# Altium schematic symbol library WCAP-ATG8.SchLib: 195 symbols (part 3 of 4)
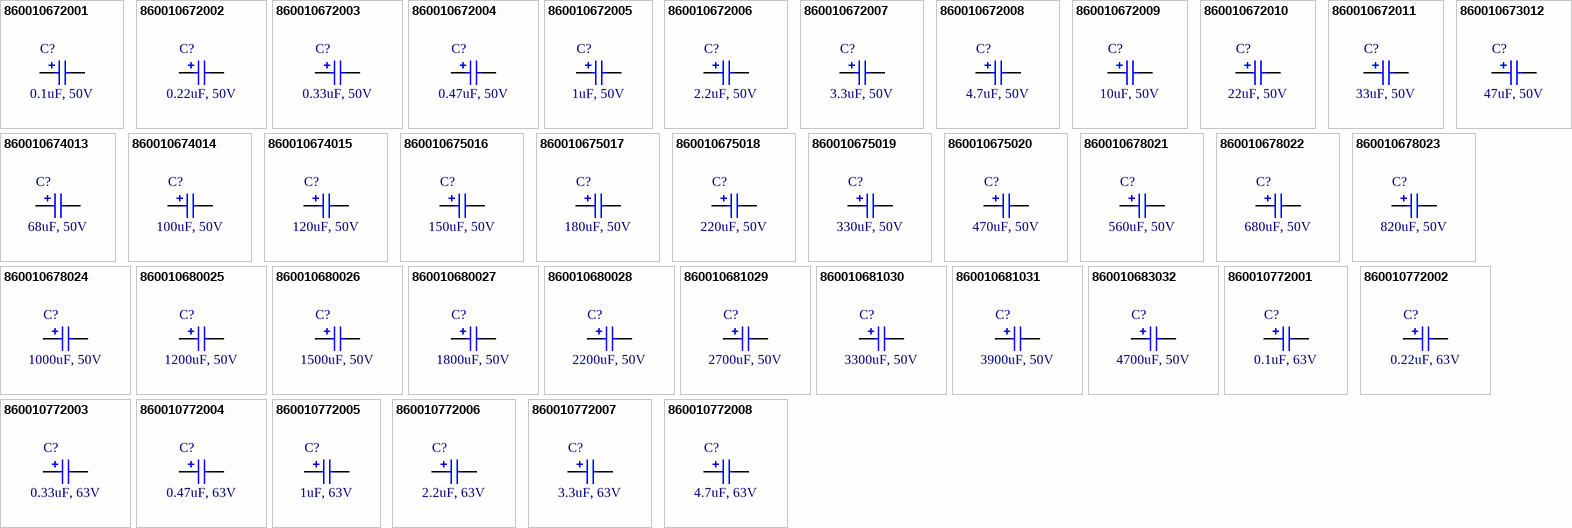
[diagram p6: symbols 860010672001 to 860010772008]

## 860010672004
designator C?, comment 0.47uF, 50V
WCAP-ATG8 Aluminum Electrolytic Capacitor, Radial, THT, D5xH11, 0.47uF, 50V; Manufacturer Part Number: 860010672004; Manufacturer: Wurth Elektronik; Ripple Current: 7.5mA; Rated Voltage: 50VDC; Technical Reference: ATBC110R47M050DSPA3B000; Leakage Current: 3uA; Endurance: 2000h; Dissipation Factor: 10%; Capacitance Tolerance: +/-20%; ComponentLink2Description: Datasheet; Published Date: October 2020; Packaging: Ammo Pack; Operating Temperature: -40 to +85degC; Mounting Technology: THT; Height: 11mm; Diameter: 5mm; ComponentLink2URL: https://www.we-online.com/catalog/datasheet/860010672004.pdf; ComponentLink1URL: http://www.we-online.de; ComponentLink1Description: Manufacturer; Capacitance: 0.47uF
footprint WCAP-ATG8_D5H11
pins: 1 P, 2 N

## 860010672005
designator C?, comment 1uF, 50V
WCAP-ATG8 Aluminum Electrolytic Capacitor, Radial, THT, D5xH11, 1uF, 50V; Manufacturer Part Number: 860010672005; Manufacturer: Wurth Elektronik; Ripple Current: 17mA; Rated Voltage: 50VDC; Technical Reference: ATBC110010M050DSPA3B000; Leakage Current: 3uA; Endurance: 2000h; Dissipation Factor: 10%; Capacitance Tolerance: +/-20%; ComponentLink2Description: Datasheet; Published Date: October 2020; Packaging: Ammo Pack; Operating Temperature: -40 to +85degC; Mounting Technology: THT; Height: 11mm; Diameter: 5mm; ComponentLink2URL: https://www.we-online.com/catalog/datasheet/860010672005.pdf; ComponentLink1URL: http://www.we-online.de; ComponentLink1Description: Manufacturer; Capacitance: 1uF
footprint WCAP-ATG8_D5H11
pins: 1 P, 2 N

## 860010672006
designator C?, comment 2.2uF, 50V
WCAP-ATG8 Aluminum Electrolytic Capacitor, Radial, THT, D5xH11, 2.2uF, 50V; Manufacturer Part Number: 860010672006; Manufacturer: Wurth Elektronik; Ripple Current: 28mA; Rated Voltage: 50VDC; Technical Reference: ATBC1102R2M050DSPA3B000; Leakage Current: 3uA; Endurance: 2000h; Dissipation Factor: 10%; Capacitance Tolerance: +/-20%; ComponentLink2Description: Datasheet; Published Date: October 2020; Packaging: Ammo Pack; Operating Temperature: -40 to +85degC; Mounting Technology: THT; Height: 11mm; Diameter: 5mm; ComponentLink2URL: https://www.we-online.com/catalog/datasheet/860010672006.pdf; ComponentLink1URL: http://www.we-online.de; ComponentLink1Description: Manufacturer; Capacitance: 2.2uF
footprint WCAP-ATG8_D5H11
pins: 1 P, 2 N

## 860010672007
designator C?, comment 3.3uF, 50V
WCAP-ATG8 Aluminum Electrolytic Capacitor, Radial, THT, D5xH11, 3.3uF, 50V; Manufacturer Part Number: 860010672007; Manufacturer: Wurth Elektronik; Ripple Current: 39mA; Rated Voltage: 50VDC; Technical Reference: ATBC1103R3M050DSPA3B000; Leakage Current: 3uA; Endurance: 2000h; Dissipation Factor: 10%; Capacitance Tolerance: +/-20%; ComponentLink2Description: Datasheet; Published Date: October 2020; Packaging: Ammo Pack; Operating Temperature: -40 to +85degC; Mounting Technology: THT; Height: 11mm; Diameter: 5mm; ComponentLink2URL: https://www.we-online.com/catalog/datasheet/860010672007.pdf; ComponentLink1URL: http://www.we-online.de; ComponentLink1Description: Manufacturer; Capacitance: 3.3uF
footprint WCAP-ATG8_D5H11
pins: 1 P, 2 N

## 860010672008
designator C?, comment 4.7uF, 50V
WCAP-ATG8 Aluminum Electrolytic Capacitor, Radial, THT, D5xH11, 4.7uF, 50V; Manufacturer Part Number: 860010672008; Manufacturer: Wurth Elektronik; Ripple Current: 46mA; Rated Voltage: 50VDC; Technical Reference: ATBC1104R7M050DSPA3B000; Leakage Current: 3uA; Endurance: 2000h; Dissipation Factor: 10%; Capacitance Tolerance: +/-20%; ComponentLink2Description: Datasheet; Published Date: October 2020; Packaging: Ammo Pack; Operating Temperature: -40 to +85degC; Mounting Technology: THT; Height: 11mm; Diameter: 5mm; ComponentLink2URL: https://www.we-online.com/catalog/datasheet/860010672008.pdf; ComponentLink1URL: http://www.we-online.de; ComponentLink1Description: Manufacturer; Capacitance: 4.7uF
footprint WCAP-ATG8_D5H11
pins: 1 P, 2 N

## 860010672009
designator C?, comment 10uF, 50V
WCAP-ATG8 Aluminum Electrolytic Capacitor, Radial, THT, D5xH11, 10uF, 50V; Manufacturer Part Number: 860010672009; Manufacturer: Wurth Elektronik; Ripple Current: 72mA; Rated Voltage: 50VDC; Technical Reference: ATBC110100M050DSPA3B000; Leakage Current: 5uA; Endurance: 2000h; Dissipation Factor: 10%; Capacitance Tolerance: +/-20%; ComponentLink2Description: Datasheet; Published Date: October 2020; Packaging: Ammo Pack; Operating Temperature: -40 to +85degC; Mounting Technology: THT; Height: 11mm; Diameter: 5mm; ComponentLink2URL: https://www.we-online.com/catalog/datasheet/860010672009.pdf; ComponentLink1URL: http://www.we-online.de; ComponentLink1Description: Manufacturer; Capacitance: 10uF
footprint WCAP-ATG8_D5H11
pins: 1 P, 2 N

## 860010672010
designator C?, comment 22uF, 50V
WCAP-ATG8 Aluminum Electrolytic Capacitor, Radial, THT, D5xH11, 22uF, 50V; Manufacturer Part Number: 860010672010; Manufacturer: Wurth Elektronik; Ripple Current: 110mA; Rated Voltage: 50VDC; Technical Reference: ATBC110220M050DSPA3B000; Leakage Current: 11uA; Endurance: 2000h; Dissipation Factor: 10%; Capacitance Tolerance: +/-20%; ComponentLink2Description: Datasheet; Published Date: October 2020; Packaging: Ammo Pack; Operating Temperature: -40 to +85degC; Mounting Technology: THT; Height: 11mm; Diameter: 5mm; ComponentLink2URL: https://www.we-online.com/catalog/datasheet/860010672010.pdf; ComponentLink1URL: http://www.we-online.de; ComponentLink1Description: Manufacturer; Capacitance: 22uF
footprint WCAP-ATG8_D5H11
pins: 1 P, 2 N

## 860010672011
designator C?, comment 33uF, 50V
WCAP-ATG8 Aluminum Electrolytic Capacitor, Radial, THT, D5xH11, 33uF, 50V; Manufacturer Part Number: 860010672011; Manufacturer: Wurth Elektronik; Ripple Current: 132mA; Rated Voltage: 50VDC; Technical Reference: ATBC110330M050DSPA3B000; Leakage Current: 16.5uA; Endurance: 2000h; Dissipation Factor: 10%; Capacitance Tolerance: +/-20%; ComponentLink2Description: Datasheet; Published Date: October 2020; Packaging: Ammo Pack; Operating Temperature: -40 to +85degC; Mounting Technology: THT; Height: 11mm; Diameter: 5mm; ComponentLink2URL: https://www.we-online.com/catalog/datasheet/860010672011.pdf; ComponentLink1URL: http://www.we-online.de; ComponentLink1Description: Manufacturer; Capacitance: 33uF
footprint WCAP-ATG8_D5H11
pins: 1 P, 2 N

## 860010673012
designator C?, comment 47uF, 50V
WCAP-ATG8 Aluminum Electrolytic Capacitor, Radial, THT, D6.3xH11, 47uF, 50V; Manufacturer Part Number: 860010673012; Manufacturer: Wurth Elektronik; Ripple Current: 165mA; Rated Voltage: 50VDC; Technical Reference: ATBD110470M050DSPA4B000; Leakage Current: 23.5uA; Endurance: 2000h; Dissipation Factor: 10%; Capacitance Tolerance: +/-20%; ComponentLink2Description: Datasheet; Published Date: October 2020; Packaging: Ammo Pack; Operating Temperature: -40 to +85degC; Mounting Technology: THT; Height: 11mm; Diameter: 6.3mm; ComponentLink2URL: https://www.we-online.com/catalog/datasheet/860010673012.pdf; ComponentLink1URL: http://www.we-online.de; ComponentLink1Description: Manufacturer; Capacitance: 47uF
footprint WCAP-ATG8_D6.3H11
pins: 1 P, 2 N

## 860010674013
designator C?, comment 68uF, 50V
WCAP-ATG8 Aluminum Electrolytic Capacitor, Radial, THT, D8xH11.5, 68uF, 50V; Manufacturer Part Number: 860010674013; Manufacturer: Wurth Elektronik; Ripple Current: 220mA; Rated Voltage: 50VDC; Technical Reference: ATBE115680M050DSPA7B000; Leakage Current: 34uA; Endurance: 2000h; Dissipation Factor: 10%; Capacitance Tolerance: +/-20%; ComponentLink2Description: Datasheet; Published Date: October 2020; Packaging: Ammo Pack; Operating Temperature: -40 to +85degC; Mounting Technology: THT; Height: 11.5mm; Diameter: 8mm; ComponentLink2URL: https://www.we-online.com/catalog/datasheet/860010674013.pdf; ComponentLink1URL: http://www.we-online.de; ComponentLink1Description: Manufacturer; Capacitance: 68uF
footprint WCAP-ATG8_D8H11.5
pins: 1 P, 2 N

## 860010674014
designator C?, comment 100uF, 50V
WCAP-ATG8 Aluminum Electrolytic Capacitor, Radial, THT, D8xH11.5, 100uF, 50V; Manufacturer Part Number: 860010674014; Manufacturer: Wurth Elektronik; Ripple Current: 286mA; Rated Voltage: 50VDC; Technical Reference: ATBE115101M050DSPA7B000; Leakage Current: 50uA; Endurance: 2000h; Dissipation Factor: 10%; Capacitance Tolerance: +/-20%; ComponentLink2Description: Datasheet; Published Date: October 2020; Packaging: Ammo Pack; Operating Temperature: -40 to +85degC; Mounting Technology: THT; Height: 11.5mm; Diameter: 8mm; ComponentLink2URL: https://www.we-online.com/catalog/datasheet/860010674014.pdf; ComponentLink1URL: http://www.we-online.de; ComponentLink1Description: Manufacturer; Capacitance: 100uF
footprint WCAP-ATG8_D8H11.5
pins: 1 P, 2 N

## 860010674015
designator C?, comment 120uF, 50V
WCAP-ATG8 Aluminum Electrolytic Capacitor, Radial, THT, D8xH11.5, 120uF, 50V; Manufacturer Part Number: 860010674015; Manufacturer: Wurth Elektronik; Ripple Current: 319mA; Rated Voltage: 50VDC; Technical Reference: ATBE115121M050DSPA7B000; Leakage Current: 60uA; Endurance: 2000h; Dissipation Factor: 10%; Capacitance Tolerance: +/-20%; ComponentLink2Description: Datasheet; Published Date: October 2020; Packaging: Ammo Pack; Operating Temperature: -40 to +85degC; Mounting Technology: THT; Height: 11.5mm; Diameter: 8mm; ComponentLink2URL: https://www.we-online.com/catalog/datasheet/860010674015.pdf; ComponentLink1URL: http://www.we-online.de; ComponentLink1Description: Manufacturer; Capacitance: 120uF
footprint WCAP-ATG8_D8H11.5
pins: 1 P, 2 N

## 860010675016
designator C?, comment 150uF, 50V
WCAP-ATG8 Aluminum Electrolytic Capacitor, Radial, THT, D10xH12.5, 150uF, 50V; Manufacturer Part Number: 860010675016; Manufacturer: Wurth Elektronik; Ripple Current: 363mA; Rated Voltage: 50VDC; Technical Reference: ATBF125151M050DSPA9B000; Leakage Current: 75uA; Endurance: 2000h; Dissipation Factor: 10%; Capacitance Tolerance: +/-20%; ComponentLink2Description: Datasheet; Published Date: October 2020; Packaging: Ammo Pack; Operating Temperature: -40 to +85degC; Mounting Technology: THT; Height: 12.5mm; Diameter: 10mm; ComponentLink2URL: https://www.we-online.com/catalog/datasheet/860010675016.pdf; ComponentLink1URL: http://www.we-online.de; ComponentLink1Description: Manufacturer; Capacitance: 150uF
footprint WCAP-ATG8_D10H12.5
pins: 1 P, 2 N

## 860010675017
designator C?, comment 180uF, 50V
WCAP-ATG8 Aluminum Electrolytic Capacitor, Radial, THT, D10xH12.5, 180uF, 50V; Manufacturer Part Number: 860010675017; Manufacturer: Wurth Elektronik; Ripple Current: 418mA; Rated Voltage: 50VDC; Technical Reference: ATBF125181M050DSPA9B000; Leakage Current: 90uA; Endurance: 2000h; Dissipation Factor: 10%; Capacitance Tolerance: +/-20%; ComponentLink2Description: Datasheet; Published Date: October 2020; Packaging: Ammo Pack; Operating Temperature: -40 to +85degC; Mounting Technology: THT; Height: 12.5mm; Diameter: 10mm; ComponentLink2URL: https://www.we-online.com/catalog/datasheet/860010675017.pdf; ComponentLink1URL: http://www.we-online.de; ComponentLink1Description: Manufacturer; Capacitance: 180uF
footprint WCAP-ATG8_D10H12.5
pins: 1 P, 2 N

## 860010675018
designator C?, comment 220uF, 50V
WCAP-ATG8 Aluminum Electrolytic Capacitor, Radial, THT, D10xH12.5, 220uF, 50V; Manufacturer Part Number: 860010675018; Manufacturer: Wurth Elektronik; Ripple Current: 468mA; Rated Voltage: 50VDC; Technical Reference: ATBF125221M050DSPA9B000; Leakage Current: 110uA; Endurance: 2000h; Dissipation Factor: 10%; Capacitance Tolerance: +/-20%; ComponentLink2Description: Datasheet; Published Date: October 2020; Packaging: Ammo Pack; Operating Temperature: -40 to +85degC; Mounting Technology: THT; Height: 12.5mm; Diameter: 10mm; ComponentLink2URL: https://www.we-online.com/catalog/datasheet/860010675018.pdf; ComponentLink1URL: http://www.we-online.de; ComponentLink1Description: Manufacturer; Capacitance: 220uF
footprint WCAP-ATG8_D10H12.5
pins: 1 P, 2 N

## 860010675019
designator C?, comment 330uF, 50V
WCAP-ATG8 Aluminum Electrolytic Capacitor, Radial, THT, D10xH16, 330uF, 50V; Manufacturer Part Number: 860010675019; Manufacturer: Wurth Elektronik; Ripple Current: 649mA; Rated Voltage: 50VDC; Technical Reference: ATBF160331M050DSPAAB000; Leakage Current: 165uA; Endurance: 2000h; Dissipation Factor: 10%; Capacitance Tolerance: +/-20%; ComponentLink2Description: Datasheet; Published Date: October 2020; Packaging: Ammo Pack; Operating Temperature: -40 to +85degC; Mounting Technology: THT; Height: 16mm; Diameter: 10mm; ComponentLink2URL: https://www.we-online.com/catalog/datasheet/860010675019.pdf; ComponentLink1URL: http://www.we-online.de; ComponentLink1Description: Manufacturer; Capacitance: 330uF
footprint WCAP-ATG8_D10H16
pins: 1 P, 2 N

## 860010675020
designator C?, comment 470uF, 50V
WCAP-ATG8 Aluminum Electrolytic Capacitor, Radial, THT, D10xH20, 470uF, 50V; Manufacturer Part Number: 860010675020; Manufacturer: Wurth Elektronik; Ripple Current: 828mA; Rated Voltage: 50VDC; Technical Reference: ATBF200471M050DSPAAB000; Leakage Current: 235uA; Endurance: 2000h; Dissipation Factor: 10%; Capacitance Tolerance: +/-20%; ComponentLink2Description: Datasheet; Published Date: October 2020; Packaging: Ammo Pack; Operating Temperature: -40 to +85degC; Mounting Technology: THT; Height: 20mm; Diameter: 10mm; ComponentLink2URL: https://www.we-online.com/catalog/datasheet/860010675020.pdf; ComponentLink1URL: http://www.we-online.de; ComponentLink1Description: Manufacturer; Capacitance: 470uF
footprint WCAP-ATG8_D10H20
pins: 1 P, 2 N

## 860010678021
designator C?, comment 560uF, 50V
WCAP-ATG8 Aluminum Electrolytic Capacitor, Radial, THT, D13xH20, 560uF, 50V; Manufacturer Part Number: 860010678021; Manufacturer: Wurth Elektronik; Ripple Current: 902mA; Rated Voltage: 50VDC; Technical Reference: ATBI200561M050DSPACB000; Leakage Current: 280uA; Endurance: 2000h; Dissipation Factor: 10%; Capacitance Tolerance: +/-20%; ComponentLink2Description: Datasheet; Published Date: October 2020; Packaging: Ammo Pack; Operating Temperature: -40 to +85degC; Mounting Technology: THT; Height: 20mm; Diameter: 13mm; ComponentLink2URL: https://www.we-online.com/catalog/datasheet/860010678021.pdf; ComponentLink1URL: http://www.we-online.de; ComponentLink1Description: Manufacturer; Capacitance: 560uF
footprint WCAP-ATG8_D13H20
pins: 1 P, 2 N

## 860010678022
designator C?, comment 680uF, 50V
WCAP-ATG8 Aluminum Electrolytic Capacitor, Radial, THT, D13xH20, 680uF, 50V; Manufacturer Part Number: 860010678022; Manufacturer: Wurth Elektronik; Ripple Current: 1056mA; Rated Voltage: 50VDC; Technical Reference: ATBI200681M050DSPACB000; Leakage Current: 340uA; Endurance: 2000h; Dissipation Factor: 10%; Capacitance Tolerance: +/-20%; ComponentLink2Description: Datasheet; Published Date: October 2020; Packaging: Ammo Pack; Operating Temperature: -40 to +85degC; Mounting Technology: THT; Height: 20mm; Diameter: 13mm; ComponentLink2URL: https://www.we-online.com/catalog/datasheet/860010678022.pdf; ComponentLink1URL: http://www.we-online.de; ComponentLink1Description: Manufacturer; Capacitance: 680uF
footprint WCAP-ATG8_D13H20
pins: 1 P, 2 N

## 860010678023
designator C?, comment 820uF, 50V
WCAP-ATG8 Aluminum Electrolytic Capacitor, Radial, THT, D13xH25, 820uF, 50V; Manufacturer Part Number: 860010678023; Manufacturer: Wurth Elektronik; Ripple Current: 1287mA; Rated Voltage: 50VDC; Technical Reference: ATBI250821M050DSPACB000; Leakage Current: 410uA; Endurance: 2000h; Dissipation Factor: 10%; Capacitance Tolerance: +/-20%; ComponentLink2Description: Datasheet; Published Date: October 2020; Packaging: Ammo Pack; Operating Temperature: -40 to +85degC; Mounting Technology: THT; Height: 25mm; Diameter: 13mm; ComponentLink2URL: https://www.we-online.com/catalog/datasheet/860010678023.pdf; ComponentLink1URL: http://www.we-online.de; ComponentLink1Description: Manufacturer; Capacitance: 820uF
footprint WCAP-ATG8_D13H25
pins: 1 P, 2 N

## 860010678024
designator C?, comment 1000uF, 50V
WCAP-ATG8 Aluminum Electrolytic Capacitor, Radial, THT, D13xH25, 1000uF, 50V; Manufacturer Part Number: 860010678024; Manufacturer: Wurth Elektronik; Ripple Current: 1485mA; Rated Voltage: 50VDC; Technical Reference: ATBI250102M050DSPACB000; Leakage Current: 500uA; Endurance: 2000h; Dissipation Factor: 10%; Capacitance Tolerance: +/-20%; ComponentLink2Description: Datasheet; Published Date: October 2020; Packaging: Ammo Pack; Operating Temperature: -40 to +85degC; Mounting Technology: THT; Height: 25mm; Diameter: 13mm; ComponentLink2URL: https://www.we-online.com/catalog/datasheet/860010678024.pdf; ComponentLink1URL: http://www.we-online.de; ComponentLink1Description: Manufacturer; Capacitance: 1000uF
footprint WCAP-ATG8_D13H25
pins: 1 P, 2 N

## 860010680025
designator C?, comment 1200uF, 50V
WCAP-ATG8 Aluminum Electrolytic Capacitor, Radial, THT, D16xH25, 1200uF, 50V; Manufacturer Part Number: 860010680025; Manufacturer: Wurth Elektronik; Ripple Current: 1617mA; Rated Voltage: 50VDC; Technical Reference: ATBK250122M050DSPAEB000; Leakage Current: 600uA; Endurance: 2000h; Dissipation Factor: 10%; Capacitance Tolerance: +/-20%; ComponentLink2Description: Datasheet; Published Date: October 2020; Packaging: Ammo Pack; Operating Temperature: -40 to +85degC; Mounting Technology: THT; Height: 25mm; Diameter: 16mm; ComponentLink2URL: https://www.we-online.com/catalog/datasheet/860010680025.pdf; ComponentLink1URL: http://www.we-online.de; ComponentLink1Description: Manufacturer; Capacitance: 1200uF
footprint WCAP-ATG8_D16H25
pins: 1 P, 2 N

## 860010680026
designator C?, comment 1500uF, 50V
WCAP-ATG8 Aluminum Electrolytic Capacitor, Radial, THT, D16xH31.5, 1500uF, 50V; Manufacturer Part Number: 860010680026; Manufacturer: Wurth Elektronik; Ripple Current: 1848mA; Rated Voltage: 50VDC; Technical Reference: ATBK315152M050DSPADB000; Leakage Current: 750uA; Endurance: 2000h; Dissipation Factor: 10%; Capacitance Tolerance: +/-20%; ComponentLink2Description: Datasheet; Published Date: October 2020; Packaging: Ammo Pack; Operating Temperature: -40 to +85degC; Mounting Technology: THT; Height: 31.5mm; Diameter: 16mm; ComponentLink2URL: https://www.we-online.com/catalog/datasheet/860010680026.pdf; ComponentLink1URL: http://www.we-online.de; ComponentLink1Description: Manufacturer; Capacitance: 1500uF
footprint WCAP-ATG8_D16H31.5
pins: 1 P, 2 N

## 860010680027
designator C?, comment 1800uF, 50V
WCAP-ATG8 Aluminum Electrolytic Capacitor, Radial, THT, D16xH31.5, 1800uF, 50V; Manufacturer Part Number: 860010680027; Manufacturer: Wurth Elektronik; Ripple Current: 2112mA; Rated Voltage: 50VDC; Technical Reference: ATBK315182M050DSPADB000; Leakage Current: 900uA; Endurance: 2000h; Dissipation Factor: 10%; Capacitance Tolerance: +/-20%; ComponentLink2Description: Datasheet; Published Date: October 2020; Packaging: Ammo Pack; Operating Temperature: -40 to +85degC; Mounting Technology: THT; Height: 31.5mm; Diameter: 16mm; ComponentLink2URL: https://www.we-online.com/catalog/datasheet/860010680027.pdf; ComponentLink1URL: http://www.we-online.de; ComponentLink1Description: Manufacturer; Capacitance: 1800uF
footprint WCAP-ATG8_D16H31.5
pins: 1 P, 2 N

## 860010680028
designator C?, comment 2200uF, 50V
WCAP-ATG8 Aluminum Electrolytic Capacitor, Radial, THT, D16xH35.5, 2200uF, 50V; Manufacturer Part Number: 860010680028; Manufacturer: Wurth Elektronik; Ripple Current: 2310mA; Rated Voltage: 50VDC; Technical Reference: ATBK355222M050DSPADB000; Leakage Current: 1100uA; Endurance: 2000h; Dissipation Factor: 10%; Capacitance Tolerance: +/-20%; ComponentLink2Description: Datasheet; Published Date: October 2020; Packaging: Ammo Pack; Operating Temperature: -40 to +85degC; Mounting Technology: THT; Height: 35.5mm; Diameter: 16mm; ComponentLink2URL: https://www.we-online.com/catalog/datasheet/860010680028.pdf; ComponentLink1URL: http://www.we-online.de; ComponentLink1Description: Manufacturer; Capacitance: 2200uF
footprint WCAP-ATG8_D16H35.5
pins: 1 P, 2 N

## 860010681029
designator C?, comment 2700uF, 50V
WCAP-ATG8 Aluminum Electrolytic Capacitor, Radial, THT, D18xH31.5, 2700uF, 50V; Manufacturer Part Number: 860010681029; Manufacturer: Wurth Elektronik; Ripple Current: 2420mA; Rated Voltage: 50VDC; Technical Reference: ATBL315272M050DSPAEB000; Leakage Current: 1350uA; Endurance: 2000h; Dissipation Factor: 10%; Capacitance Tolerance: +/-20%; ComponentLink2Description: Datasheet; Published Date: October 2020; Packaging: Ammo Pack; Operating Temperature: -40 to +85degC; Mounting Technology: THT; Height: 31.5mm; Diameter: 18mm; ComponentLink2URL: https://www.we-online.com/catalog/datasheet/860010681029.pdf; ComponentLink1URL: http://www.we-online.de; ComponentLink1Description: Manufacturer; Capacitance: 2700uF
footprint WCAP-ATG8_D18H31.5
pins: 1 P, 2 N

## 860010681030
designator C?, comment 3300uF, 50V
WCAP-ATG8 Aluminum Electrolytic Capacitor, Radial, THT, D18xH35.5, 3300uF, 50V; Manufacturer Part Number: 860010681030; Manufacturer: Wurth Elektronik; Ripple Current: 2750mA; Rated Voltage: 50VDC; Technical Reference: ATBL355332M050DSPAEB000; Leakage Current: 1650uA; Endurance: 2000h; Dissipation Factor: 10%; Capacitance Tolerance: +/-20%; ComponentLink2Description: Datasheet; Published Date: October 2020; Packaging: Ammo Pack; Operating Temperature: -40 to +85degC; Mounting Technology: THT; Height: 35.5mm; Diameter: 18mm; ComponentLink2URL: https://www.we-online.com/catalog/datasheet/860010681030.pdf; ComponentLink1URL: http://www.we-online.de; ComponentLink1Description: Manufacturer; Capacitance: 3300uF
footprint WCAP-ATG8_D18H35.5
pins: 1 P, 2 N

## 860010681031
designator C?, comment 3900uF, 50V
WCAP-ATG8 Aluminum Electrolytic Capacitor, Radial, THT, D18xH41, 3900uF, 50V; Manufacturer Part Number: 860010681031; Manufacturer: Wurth Elektronik; Ripple Current: 2871mA; Rated Voltage: 50VDC; Technical Reference: ATBL410392M050DSPS1B000; Leakage Current: 1950uA; Endurance: 2000h; Dissipation Factor: 10%; Capacitance Tolerance: +/-20%; ComponentLink2Description: Datasheet; Published Date: October 2020; Packaging: Ammo Pack; Operating Temperature: -40 to +85degC; Mounting Technology: THT; Height: 41mm; Diameter: 18mm; ComponentLink2URL: https://www.we-online.com/catalog/datasheet/860010681031.pdf; ComponentLink1URL: http://www.we-online.de; ComponentLink1Description: Manufacturer; Capacitance: 3900uF
footprint WCAP-ATG8_D18H41
pins: 1 P, 2 N

## 860010683032
designator C?, comment 4700uF, 50V
WCAP-ATG8 Aluminum Electrolytic Capacitor, Radial, THT, D22xH41, 4700uF, 50V; Manufacturer Part Number: 860010683032; Manufacturer: Wurth Elektronik; Ripple Current: 3355mA; Rated Voltage: 50VDC; Technical Reference: ATBN410472M050DSPS2B000; Leakage Current: 2350uA; Endurance: 2000h; Dissipation Factor: 10%; Capacitance Tolerance: +/-20%; ComponentLink2Description: Datasheet; Published Date: October 2020; Packaging: Ammo Pack; Operating Temperature: -40 to +85degC; Mounting Technology: THT; Height: 41mm; Diameter: 22mm; ComponentLink2URL: https://www.we-online.com/catalog/datasheet/860010683032.pdf; ComponentLink1URL: http://www.we-online.de; ComponentLink1Description: Manufacturer; Capacitance: 4700uF
footprint WCAP-ATG8_D22H41
pins: 1 P, 2 N

## 860010772001
designator C?, comment 0.1uF, 63V
WCAP-ATG8 Aluminum Electrolytic Capacitor, Radial, THT, D5xH11, 0.1uF, 63V; Manufacturer Part Number: 860010772001; Manufacturer: Wurth Elektronik; Ripple Current: 4mA; Rated Voltage: 63VDC; Technical Reference: ATBC110R10M063DSPA3B000; Leakage Current: 3uA; Endurance: 2000h; Dissipation Factor: 9%; Capacitance Tolerance: +/-20%; ComponentLink2Description: Datasheet; Published Date: October 2020; Packaging: Ammo Pack; Operating Temperature: -40 to +85degC; Mounting Technology: THT; Height: 11mm; Diameter: 5mm; ComponentLink2URL: https://www.we-online.com/catalog/datasheet/860010772001.pdf; ComponentLink1URL: http://www.we-online.de; ComponentLink1Description: Manufacturer; Capacitance: 0.1uF
footprint WCAP-ATG8_D5H11
pins: 1 P, 2 N

## 860010772002
designator C?, comment 0.22uF, 63V
WCAP-ATG8 Aluminum Electrolytic Capacitor, Radial, THT, D5xH11, 0.22uF, 63V; Manufacturer Part Number: 860010772002; Manufacturer: Wurth Elektronik; Ripple Current: 4mA; Rated Voltage: 63VDC; Technical Reference: ATBC110R22M063DSPA3B000; Leakage Current: 3uA; Endurance: 2000h; Dissipation Factor: 9%; Capacitance Tolerance: +/-20%; ComponentLink2Description: Datasheet; Published Date: October 2020; Packaging: Ammo Pack; Operating Temperature: -40 to +85degC; Mounting Technology: THT; Height: 11mm; Diameter: 5mm; ComponentLink2URL: https://www.we-online.com/catalog/datasheet/860010772002.pdf; ComponentLink1URL: http://www.we-online.de; ComponentLink1Description: Manufacturer; Capacitance: 0.22uF
footprint WCAP-ATG8_D5H11
pins: 1 P, 2 N

## 860010772003
designator C?, comment 0.33uF, 63V
WCAP-ATG8 Aluminum Electrolytic Capacitor, Radial, THT, D5xH11, 0.33uF, 63V; Manufacturer Part Number: 860010772003; Manufacturer: Wurth Elektronik; Ripple Current: 6mA; Rated Voltage: 63VDC; Technical Reference: ATBC110R33M063DSPA3B000; Leakage Current: 3uA; Endurance: 2000h; Dissipation Factor: 9%; Capacitance Tolerance: +/-20%; ComponentLink2Description: Datasheet; Published Date: October 2020; Packaging: Ammo Pack; Operating Temperature: -40 to +85degC; Mounting Technology: THT; Height: 11mm; Diameter: 5mm; ComponentLink2URL: https://www.we-online.com/catalog/datasheet/860010772003.pdf; ComponentLink1URL: http://www.we-online.de; ComponentLink1Description: Manufacturer; Capacitance: 0.33uF
footprint WCAP-ATG8_D5H11
pins: 1 P, 2 N

## 860010772004
designator C?, comment 0.47uF, 63V
WCAP-ATG8 Aluminum Electrolytic Capacitor, Radial, THT, D5xH11, 0.47uF, 63V; Manufacturer Part Number: 860010772004; Manufacturer: Wurth Elektronik; Ripple Current: 8mA; Rated Voltage: 63VDC; Technical Reference: ATBC110R47M063DSPA3B000; Leakage Current: 3uA; Endurance: 2000h; Dissipation Factor: 9%; Capacitance Tolerance: +/-20%; ComponentLink2Description: Datasheet; Published Date: October 2020; Packaging: Ammo Pack; Operating Temperature: -40 to +85degC; Mounting Technology: THT; Height: 11mm; Diameter: 5mm; ComponentLink2URL: https://www.we-online.com/catalog/datasheet/860010772004.pdf; ComponentLink1URL: http://www.we-online.de; ComponentLink1Description: Manufacturer; Capacitance: 0.47uF
footprint WCAP-ATG8_D5H11
pins: 1 P, 2 N

## 860010772005
designator C?, comment 1uF, 63V
WCAP-ATG8 Aluminum Electrolytic Capacitor, Radial, THT, D5xH11, 1uF, 63V; Manufacturer Part Number: 860010772005; Manufacturer: Wurth Elektronik; Ripple Current: 17mA; Rated Voltage: 63VDC; Technical Reference: ATBC110010M063DSPA3B000; Leakage Current: 3uA; Endurance: 2000h; Dissipation Factor: 9%; Capacitance Tolerance: +/-20%; ComponentLink2Description: Datasheet; Published Date: October 2020; Packaging: Ammo Pack; Operating Temperature: -40 to +85degC; Mounting Technology: THT; Height: 11mm; Diameter: 5mm; ComponentLink2URL: https://www.we-online.com/catalog/datasheet/860010772005.pdf; ComponentLink1URL: http://www.we-online.de; ComponentLink1Description: Manufacturer; Capacitance: 1uF
footprint WCAP-ATG8_D5H11
pins: 1 P, 2 N

## 860010772006
designator C?, comment 2.2uF, 63V
WCAP-ATG8 Aluminum Electrolytic Capacitor, Radial, THT, D5xH11, 2.2uF, 63V; Manufacturer Part Number: 860010772006; Manufacturer: Wurth Elektronik; Ripple Current: 31mA; Rated Voltage: 63VDC; Technical Reference: ATBC1102R2M063DSPA3B000; Leakage Current: 3uA; Endurance: 2000h; Dissipation Factor: 9%; Capacitance Tolerance: +/-20%; ComponentLink2Description: Datasheet; Published Date: October 2020; Packaging: Ammo Pack; Operating Temperature: -40 to +85degC; Mounting Technology: THT; Height: 11mm; Diameter: 5mm; ComponentLink2URL: https://www.we-online.com/catalog/datasheet/860010772006.pdf; ComponentLink1URL: http://www.we-online.de; ComponentLink1Description: Manufacturer; Capacitance: 2.2uF
footprint WCAP-ATG8_D5H11
pins: 1 P, 2 N

## 860010772007
designator C?, comment 3.3uF, 63V
WCAP-ATG8 Aluminum Electrolytic Capacitor, Radial, THT, D5xH11, 3.3uF, 63V; Manufacturer Part Number: 860010772007; Manufacturer: Wurth Elektronik; Ripple Current: 39mA; Rated Voltage: 63VDC; Technical Reference: ATBC1103R3M063DSPA3B000; Leakage Current: 3uA; Endurance: 2000h; Dissipation Factor: 9%; Capacitance Tolerance: +/-20%; ComponentLink2Description: Datasheet; Published Date: October 2020; Packaging: Ammo Pack; Operating Temperature: -40 to +85degC; Mounting Technology: THT; Height: 11mm; Diameter: 5mm; ComponentLink2URL: https://www.we-online.com/catalog/datasheet/860010772007.pdf; ComponentLink1URL: http://www.we-online.de; ComponentLink1Description: Manufacturer; Capacitance: 3.3uF
footprint WCAP-ATG8_D5H11
pins: 1 P, 2 N

## 860010772008
designator C?, comment 4.7uF, 63V
WCAP-ATG8 Aluminum Electrolytic Capacitor, Radial, THT, D5xH11, 4.7uF, 63V; Manufacturer Part Number: 860010772008; Manufacturer: Wurth Elektronik; Ripple Current: 50mA; Rated Voltage: 63VDC; Technical Reference: ATBC1104R7M063DSPA3B000; Leakage Current: 3uA; Endurance: 2000h; Dissipation Factor: 9%; Capacitance Tolerance: +/-20%; ComponentLink2Description: Datasheet; Published Date: October 2020; Packaging: Ammo Pack; Operating Temperature: -40 to +85degC; Mounting Technology: THT; Height: 11mm; Diameter: 5mm; ComponentLink2URL: https://www.we-online.com/catalog/datasheet/860010772008.pdf; ComponentLink1URL: http://www.we-online.de; ComponentLink1Description: Manufacturer; Capacitance: 4.7uF
footprint WCAP-ATG8_D5H11
pins: 1 P, 2 N

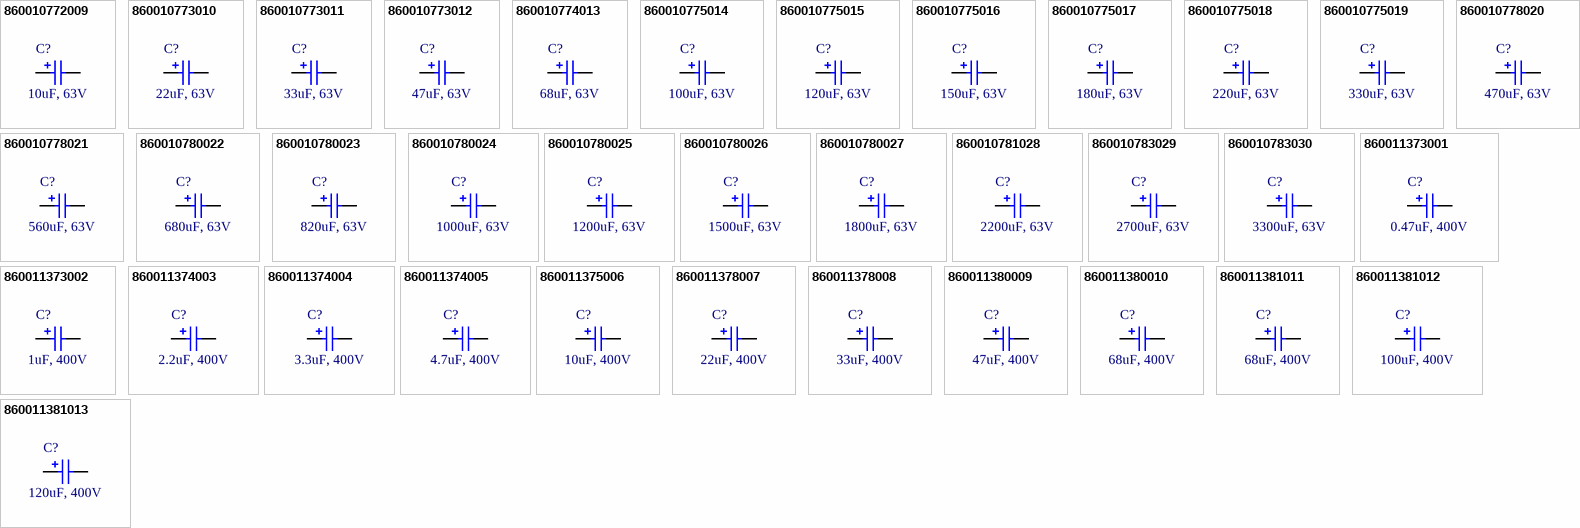
[diagram p4: symbols 860010772009 to 860011381013]

## 860010772009
designator C?, comment 10uF, 63V
WCAP-ATG8 Aluminum Electrolytic Capacitor, Radial, THT, D5xH11, 10uF, 63V; Manufacturer Part Number: 860010772009; Manufacturer: Wurth Elektronik; Ripple Current: 77mA; Rated Voltage: 63VDC; Technical Reference: ATBC110100M063DSPA3B000; Leakage Current: 6.3uA; Endurance: 2000h; Dissipation Factor: 9%; Capacitance Tolerance: +/-20%; ComponentLink2Description: Datasheet; Published Date: October 2020; Packaging: Ammo Pack; Operating Temperature: -40 to +85degC; Mounting Technology: THT; Height: 11mm; Diameter: 5mm; ComponentLink2URL: https://www.we-online.com/catalog/datasheet/860010772009.pdf; ComponentLink1URL: http://www.we-online.de; ComponentLink1Description: Manufacturer; Capacitance: 10uF
footprint WCAP-ATG8_D5H11
pins: 1 P, 2 N

## 860010773010
designator C?, comment 22uF, 63V
WCAP-ATG8 Aluminum Electrolytic Capacitor, Radial, THT, D6.3xH11, 22uF, 63V; Manufacturer Part Number: 860010773010; Manufacturer: Wurth Elektronik; Ripple Current: 127mA; Rated Voltage: 63VDC; Technical Reference: ATBD110220M063DSPA4B000; Leakage Current: 13.86uA; Endurance: 2000h; Dissipation Factor: 9%; Capacitance Tolerance: +/-20%; ComponentLink2Description: Datasheet; Published Date: October 2020; Packaging: Ammo Pack; Operating Temperature: -40 to +85degC; Mounting Technology: THT; Height: 11mm; Diameter: 6.3mm; ComponentLink2URL: https://www.we-online.com/catalog/datasheet/860010773010.pdf; ComponentLink1URL: http://www.we-online.de; ComponentLink1Description: Manufacturer; Capacitance: 22uF
footprint WCAP-ATG8_D6.3H11
pins: 1 P, 2 N

## 860010773011
designator C?, comment 33uF, 63V
WCAP-ATG8 Aluminum Electrolytic Capacitor, Radial, THT, D6.3xH11, 33uF, 63V; Manufacturer Part Number: 860010773011; Manufacturer: Wurth Elektronik; Ripple Current: 149mA; Rated Voltage: 63VDC; Technical Reference: ATBD110330M063DSPA4B000; Leakage Current: 20.79uA; Endurance: 2000h; Dissipation Factor: 9%; Capacitance Tolerance: +/-20%; ComponentLink2Description: Datasheet; Published Date: October 2020; Packaging: Ammo Pack; Operating Temperature: -40 to +85degC; Mounting Technology: THT; Height: 11mm; Diameter: 6.3mm; ComponentLink2URL: https://www.we-online.com/catalog/datasheet/860010773011.pdf; ComponentLink1URL: http://www.we-online.de; ComponentLink1Description: Manufacturer; Capacitance: 33uF
footprint WCAP-ATG8_D6.3H11
pins: 1 P, 2 N

## 860010773012
designator C?, comment 47uF, 63V
WCAP-ATG8 Aluminum Electrolytic Capacitor, Radial, THT, D6.3xH11, 47uF, 63V; Manufacturer Part Number: 860010773012; Manufacturer: Wurth Elektronik; Ripple Current: 198mA; Rated Voltage: 63VDC; Technical Reference: ATBD110470M063DSPA4B000; Leakage Current: 29.61uA; Endurance: 2000h; Dissipation Factor: 9%; Capacitance Tolerance: +/-20%; ComponentLink2Description: Datasheet; Published Date: October 2020; Packaging: Ammo Pack; Operating Temperature: -40 to +85degC; Mounting Technology: THT; Height: 11mm; Diameter: 6.3mm; ComponentLink2URL: https://www.we-online.com/catalog/datasheet/860010773012.pdf; ComponentLink1URL: http://www.we-online.de; ComponentLink1Description: Manufacturer; Capacitance: 47uF
footprint WCAP-ATG8_D6.3H11
pins: 1 P, 2 N

## 860010774013
designator C?, comment 68uF, 63V
WCAP-ATG8 Aluminum Electrolytic Capacitor, Radial, THT, D8xH11.5, 68uF, 63V; Manufacturer Part Number: 860010774013; Manufacturer: Wurth Elektronik; Ripple Current: 253mA; Rated Voltage: 63VDC; Technical Reference: ATBE115680M063DSPA7B000; Leakage Current: 42.84uA; Endurance: 2000h; Dissipation Factor: 9%; Capacitance Tolerance: +/-20%; ComponentLink2Description: Datasheet; Published Date: October 2020; Packaging: Ammo Pack; Operating Temperature: -40 to +85degC; Mounting Technology: THT; Height: 11.5mm; Diameter: 8mm; ComponentLink2URL: https://www.we-online.com/catalog/datasheet/860010774013.pdf; ComponentLink1URL: http://www.we-online.de; ComponentLink1Description: Manufacturer; Capacitance: 68uF
footprint WCAP-ATG8_D8H11.5
pins: 1 P, 2 N

## 860010775014
designator C?, comment 100uF, 63V
WCAP-ATG8 Aluminum Electrolytic Capacitor, Radial, THT, D10xH12.5, 100uF, 63V; Manufacturer Part Number: 860010775014; Manufacturer: Wurth Elektronik; Ripple Current: 330mA; Rated Voltage: 63VDC; Technical Reference: ATBF125101M063DSPA9B000; Leakage Current: 63uA; Endurance: 2000h; Dissipation Factor: 9%; Capacitance Tolerance: +/-20%; ComponentLink2Description: Datasheet; Published Date: October 2020; Packaging: Ammo Pack; Operating Temperature: -40 to +85degC; Mounting Technology: THT; Height: 12.5mm; Diameter: 10mm; ComponentLink2URL: https://www.we-online.com/catalog/datasheet/860010775014.pdf; ComponentLink1URL: http://www.we-online.de; ComponentLink1Description: Manufacturer; Capacitance: 100uF
footprint WCAP-ATG8_D10H12.5
pins: 1 P, 2 N

## 860010775015
designator C?, comment 120uF, 63V
WCAP-ATG8 Aluminum Electrolytic Capacitor, Radial, THT, D10xH16, 120uF, 63V; Manufacturer Part Number: 860010775015; Manufacturer: Wurth Elektronik; Ripple Current: 396mA; Rated Voltage: 63VDC; Technical Reference: ATBF160121M063DSPAAB000; Leakage Current: 75.6uA; Endurance: 2000h; Dissipation Factor: 9%; Capacitance Tolerance: +/-20%; ComponentLink2Description: Datasheet; Published Date: October 2020; Packaging: Ammo Pack; Operating Temperature: -40 to +85degC; Mounting Technology: THT; Height: 16mm; Diameter: 10mm; ComponentLink2URL: https://www.we-online.com/catalog/datasheet/860010775015.pdf; ComponentLink1URL: http://www.we-online.de; ComponentLink1Description: Manufacturer; Capacitance: 120uF
footprint WCAP-ATG8_D10H16
pins: 1 P, 2 N

## 860010775016
designator C?, comment 150uF, 63V
WCAP-ATG8 Aluminum Electrolytic Capacitor, Radial, THT, D10xH16, 150uF, 63V; Manufacturer Part Number: 860010775016; Manufacturer: Wurth Elektronik; Ripple Current: 462mA; Rated Voltage: 63VDC; Technical Reference: ATBF160151M063DSPAAB000; Leakage Current: 94.5uA; Endurance: 2000h; Dissipation Factor: 9%; Capacitance Tolerance: +/-20%; ComponentLink2Description: Datasheet; Published Date: October 2020; Packaging: Ammo Pack; Operating Temperature: -40 to +85degC; Mounting Technology: THT; Height: 16mm; Diameter: 10mm; ComponentLink2URL: https://www.we-online.com/catalog/datasheet/860010775016.pdf; ComponentLink1URL: http://www.we-online.de; ComponentLink1Description: Manufacturer; Capacitance: 150uF
footprint WCAP-ATG8_D10H16
pins: 1 P, 2 N

## 860010775017
designator C?, comment 180uF, 63V
WCAP-ATG8 Aluminum Electrolytic Capacitor, Radial, THT, D10xH16, 180uF, 63V; Manufacturer Part Number: 860010775017; Manufacturer: Wurth Elektronik; Ripple Current: 528mA; Rated Voltage: 63VDC; Technical Reference: ATBF160181M063DSPAAB000; Leakage Current: 113.4uA; Endurance: 2000h; Dissipation Factor: 9%; Capacitance Tolerance: +/-20%; ComponentLink2Description: Datasheet; Published Date: October 2020; Packaging: Ammo Pack; Operating Temperature: -40 to +85degC; Mounting Technology: THT; Height: 16mm; Diameter: 10mm; ComponentLink2URL: https://www.we-online.com/catalog/datasheet/860010775017.pdf; ComponentLink1URL: http://www.we-online.de; ComponentLink1Description: Manufacturer; Capacitance: 180uF
footprint WCAP-ATG8_D10H16
pins: 1 P, 2 N

## 860010775018
designator C?, comment 220uF, 63V
WCAP-ATG8 Aluminum Electrolytic Capacitor, Radial, THT, D10xH16, 220uF, 63V; Manufacturer Part Number: 860010775018; Manufacturer: Wurth Elektronik; Ripple Current: 550mA; Rated Voltage: 63VDC; Technical Reference: ATBF160221M063DSPAAB000; Leakage Current: 138.6uA; Endurance: 2000h; Dissipation Factor: 9%; Capacitance Tolerance: +/-20%; ComponentLink2Description: Datasheet; Published Date: October 2020; Packaging: Ammo Pack; Operating Temperature: -40 to +85degC; Mounting Technology: THT; Height: 16mm; Diameter: 10mm; ComponentLink2URL: https://www.we-online.com/catalog/datasheet/860010775018.pdf; ComponentLink1URL: http://www.we-online.de; ComponentLink1Description: Manufacturer; Capacitance: 220uF
footprint WCAP-ATG8_D10H16
pins: 1 P, 2 N

## 860010775019
designator C?, comment 330uF, 63V
WCAP-ATG8 Aluminum Electrolytic Capacitor, Radial, THT, D10xH20, 330uF, 63V; Manufacturer Part Number: 860010775019; Manufacturer: Wurth Elektronik; Ripple Current: 759mA; Rated Voltage: 63VDC; Technical Reference: ATBF200331M063DSPAAB000; Leakage Current: 207.9uA; Endurance: 2000h; Dissipation Factor: 9%; Capacitance Tolerance: +/-20%; ComponentLink2Description: Datasheet; Published Date: October 2020; Packaging: Ammo Pack; Operating Temperature: -40 to +85degC; Mounting Technology: THT; Height: 20mm; Diameter: 10mm; ComponentLink2URL: https://www.we-online.com/catalog/datasheet/860010775019.pdf; ComponentLink1URL: http://www.we-online.de; ComponentLink1Description: Manufacturer; Capacitance: 330uF
footprint WCAP-ATG8_D10H20
pins: 1 P, 2 N

## 860010778020
designator C?, comment 470uF, 63V
WCAP-ATG8 Aluminum Electrolytic Capacitor, Radial, THT, D13xH20, 470uF, 63V; Manufacturer Part Number: 860010778020; Manufacturer: Wurth Elektronik; Ripple Current: 968mA; Rated Voltage: 63VDC; Technical Reference: ATBI200471M063DSPACB000; Leakage Current: 296.1uA; Endurance: 2000h; Dissipation Factor: 9%; Capacitance Tolerance: +/-20%; ComponentLink2Description: Datasheet; Published Date: October 2020; Packaging: Ammo Pack; Operating Temperature: -40 to +85degC; Mounting Technology: THT; Height: 20mm; Diameter: 13mm; ComponentLink2URL: https://www.we-online.com/catalog/datasheet/860010778020.pdf; ComponentLink1URL: http://www.we-online.de; ComponentLink1Description: Manufacturer; Capacitance: 470uF
footprint WCAP-ATG8_D13H20
pins: 1 P, 2 N

## 860010778021
designator C?, comment 560uF, 63V
WCAP-ATG8 Aluminum Electrolytic Capacitor, Radial, THT, D13xH25, 560uF, 63V; Manufacturer Part Number: 860010778021; Manufacturer: Wurth Elektronik; Ripple Current: 1056mA; Rated Voltage: 63VDC; Technical Reference: ATBI250561M063DSPACB000; Leakage Current: 352.8uA; Endurance: 2000h; Dissipation Factor: 9%; Capacitance Tolerance: +/-20%; ComponentLink2Description: Datasheet; Published Date: October 2020; Packaging: Ammo Pack; Operating Temperature: -40 to +85degC; Mounting Technology: THT; Height: 25mm; Diameter: 13mm; ComponentLink2URL: https://www.we-online.com/catalog/datasheet/860010778021.pdf; ComponentLink1URL: http://www.we-online.de; ComponentLink1Description: Manufacturer; Capacitance: 560uF
footprint WCAP-ATG8_D13H25
pins: 1 P, 2 N

## 860010780022
designator C?, comment 680uF, 63V
WCAP-ATG8 Aluminum Electrolytic Capacitor, Radial, THT, D16xH25, 680uF, 63V; Manufacturer Part Number: 860010780022; Manufacturer: Wurth Elektronik; Ripple Current: 1265mA; Rated Voltage: 63VDC; Technical Reference: ATBK250681M063DSPAEB000; Leakage Current: 428.4uA; Endurance: 2000h; Dissipation Factor: 9%; Capacitance Tolerance: +/-20%; ComponentLink2Description: Datasheet; Published Date: October 2020; Packaging: Ammo Pack; Operating Temperature: -40 to +85degC; Mounting Technology: THT; Height: 25mm; Diameter: 16mm; ComponentLink2URL: https://www.we-online.com/catalog/datasheet/860010780022.pdf; ComponentLink1URL: http://www.we-online.de; ComponentLink1Description: Manufacturer; Capacitance: 680uF
footprint WCAP-ATG8_D16H25
pins: 1 P, 2 N

## 860010780023
designator C?, comment 820uF, 63V
WCAP-ATG8 Aluminum Electrolytic Capacitor, Radial, THT, D16xH25, 820uF, 63V; Manufacturer Part Number: 860010780023; Manufacturer: Wurth Elektronik; Ripple Current: 1430mA; Rated Voltage: 63VDC; Technical Reference: ATBK250821M063DSPAEB000; Leakage Current: 516.6uA; Endurance: 2000h; Dissipation Factor: 9%; Capacitance Tolerance: +/-20%; ComponentLink2Description: Datasheet; Published Date: October 2020; Packaging: Ammo Pack; Operating Temperature: -40 to +85degC; Mounting Technology: THT; Height: 25mm; Diameter: 16mm; ComponentLink2URL: https://www.we-online.com/catalog/datasheet/860010780023.pdf; ComponentLink1URL: http://www.we-online.de; ComponentLink1Description: Manufacturer; Capacitance: 820uF
footprint WCAP-ATG8_D16H25
pins: 1 P, 2 N

## 860010780024
designator C?, comment 1000uF, 63V
WCAP-ATG8 Aluminum Electrolytic Capacitor, Radial, THT, D16xH25, 1000uF, 63V; Manufacturer Part Number: 860010780024; Manufacturer: Wurth Elektronik; Ripple Current: 1540mA; Rated Voltage: 63VDC; Technical Reference: ATBK250102M063DSPAEB000; Leakage Current: 630uA; Endurance: 2000h; Dissipation Factor: 9%; Capacitance Tolerance: +/-20%; ComponentLink2Description: Datasheet; Published Date: October 2020; Packaging: Ammo Pack; Operating Temperature: -40 to +85degC; Mounting Technology: THT; Height: 25mm; Diameter: 16mm; ComponentLink2URL: https://www.we-online.com/catalog/datasheet/860010780024.pdf; ComponentLink1URL: http://www.we-online.de; ComponentLink1Description: Manufacturer; Capacitance: 1000uF
footprint WCAP-ATG8_D16H25
pins: 1 P, 2 N

## 860010780025
designator C?, comment 1200uF, 63V
WCAP-ATG8 Aluminum Electrolytic Capacitor, Radial, THT, D16xH31.5, 1200uF, 63V; Manufacturer Part Number: 860010780025; Manufacturer: Wurth Elektronik; Ripple Current: 1837mA; Rated Voltage: 63VDC; Technical Reference: ATBK315122M063DSPADB000; Leakage Current: 756uA; Endurance: 2000h; Dissipation Factor: 9%; Capacitance Tolerance: +/-20%; ComponentLink2Description: Datasheet; Published Date: October 2020; Packaging: Ammo Pack; Operating Temperature: -40 to +85degC; Mounting Technology: THT; Height: 31.5mm; Diameter: 16mm; ComponentLink2URL: https://www.we-online.com/catalog/datasheet/860010780025.pdf; ComponentLink1URL: http://www.we-online.de; ComponentLink1Description: Manufacturer; Capacitance: 1200uF
footprint WCAP-ATG8_D16H31.5
pins: 1 P, 2 N

## 860010780026
designator C?, comment 1500uF, 63V
WCAP-ATG8 Aluminum Electrolytic Capacitor, Radial, THT, D16xH35.5, 1500uF, 63V; Manufacturer Part Number: 860010780026; Manufacturer: Wurth Elektronik; Ripple Current: 2090mA; Rated Voltage: 63VDC; Technical Reference: ATBK355152M063DSPADB000; Leakage Current: 945uA; Endurance: 2000h; Dissipation Factor: 9%; Capacitance Tolerance: +/-20%; ComponentLink2Description: Datasheet; Published Date: October 2020; Packaging: Ammo Pack; Operating Temperature: -40 to +85degC; Mounting Technology: THT; Height: 35.5mm; Diameter: 16mm; ComponentLink2URL: https://www.we-online.com/catalog/datasheet/860010780026.pdf; ComponentLink1URL: http://www.we-online.de; ComponentLink1Description: Manufacturer; Capacitance: 1500uF
footprint WCAP-ATG8_D16H35.5
pins: 1 P, 2 N

## 860010780027
designator C?, comment 1800uF, 63V
WCAP-ATG8 Aluminum Electrolytic Capacitor, Radial, THT, D16xH35.5, 1800uF, 63V; Manufacturer Part Number: 860010780027; Manufacturer: Wurth Elektronik; Ripple Current: 2255mA; Rated Voltage: 63VDC; Technical Reference: ATBK355182M063DSPADB000; Leakage Current: 1134uA; Endurance: 2000h; Dissipation Factor: 9%; Capacitance Tolerance: +/-20%; ComponentLink2Description: Datasheet; Published Date: October 2020; Packaging: Ammo Pack; Operating Temperature: -40 to +85degC; Mounting Technology: THT; Height: 35.5mm; Diameter: 16mm; ComponentLink2URL: https://www.we-online.com/catalog/datasheet/860010780027.pdf; ComponentLink1URL: http://www.we-online.de; ComponentLink1Description: Manufacturer; Capacitance: 1800uF
footprint WCAP-ATG8_D16H35.5
pins: 1 P, 2 N

## 860010781028
designator C?, comment 2200uF, 63V
WCAP-ATG8 Aluminum Electrolytic Capacitor, Radial, THT, D18xH35.5, 2200uF, 63V; Manufacturer Part Number: 860010781028; Manufacturer: Wurth Elektronik; Ripple Current: 2475mA; Rated Voltage: 63VDC; Technical Reference: ATBL355222M063DSPAEB000; Leakage Current: 1386uA; Endurance: 2000h; Dissipation Factor: 9%; Capacitance Tolerance: +/-20%; ComponentLink2Description: Datasheet; Published Date: October 2020; Packaging: Ammo Pack; Operating Temperature: -40 to +85degC; Mounting Technology: THT; Height: 35.5mm; Diameter: 18mm; ComponentLink2URL: https://www.we-online.com/catalog/datasheet/860010781028.pdf; ComponentLink1URL: http://www.we-online.de; ComponentLink1Description: Manufacturer; Capacitance: 2200uF
footprint WCAP-ATG8_D18H35.5
pins: 1 P, 2 N

## 860010783029
designator C?, comment 2700uF, 63V
WCAP-ATG8 Aluminum Electrolytic Capacitor, Radial, THT, D22xH41, 2700uF, 63V; Manufacturer Part Number: 860010783029; Manufacturer: Wurth Elektronik; Ripple Current: 2860mA; Rated Voltage: 63VDC; Technical Reference: ATBN410272M063DSPS2B000; Leakage Current: 1701uA; Endurance: 2000h; Dissipation Factor: 9%; Capacitance Tolerance: +/-20%; ComponentLink2Description: Datasheet; Published Date: October 2020; Packaging: Ammo Pack; Operating Temperature: -40 to +85degC; Mounting Technology: THT; Height: 41mm; Diameter: 22mm; ComponentLink2URL: https://www.we-online.com/catalog/datasheet/860010783029.pdf; ComponentLink1URL: http://www.we-online.de; ComponentLink1Description: Manufacturer; Capacitance: 2700uF
footprint WCAP-ATG8_D22H41
pins: 1 P, 2 N

## 860010783030
designator C?, comment 3300uF, 63V
WCAP-ATG8 Aluminum Electrolytic Capacitor, Radial, THT, D22xH41, 3300uF, 63V; Manufacturer Part Number: 860010783030; Manufacturer: Wurth Elektronik; Ripple Current: 3080mA; Rated Voltage: 63VDC; Technical Reference: ATBN410332M063DSPS2B000; Leakage Current: 2079uA; Endurance: 2000h; Dissipation Factor: 9%; Capacitance Tolerance: +/-20%; ComponentLink2Description: Datasheet; Published Date: October 2020; Packaging: Ammo Pack; Operating Temperature: -40 to +85degC; Mounting Technology: THT; Height: 41mm; Diameter: 22mm; ComponentLink2URL: https://www.we-online.com/catalog/datasheet/860010783030.pdf; ComponentLink1URL: http://www.we-online.de; ComponentLink1Description: Manufacturer; Capacitance: 3300uF
footprint WCAP-ATG8_D22H41
pins: 1 P, 2 N

## 860011373001
designator C?, comment 0.47uF, 400V
WCAP-ATG8 Aluminum Electrolytic Capacitor, Radial, THT, D6.3xH11, 0.47uF, 400V; Manufacturer Part Number: 860011373001; Manufacturer: Wurth Elektronik; Ripple Current: 12mA; Rated Voltage: 400VDC; Technical Reference: ATAD110R47M400DSPA4B000; Leakage Current: 5.64uA; Endurance: 2000h; Dissipation Factor: 15%; Capacitance Tolerance: +/-20%; ComponentLink2Description: Datasheet; Published Date: October 2020; Packaging: Ammo Pack; Operating Temperature: -25 to +85degC; Mounting Technology: THT; Height: 11mm; Diameter: 6.3mm; ComponentLink2URL: https://www.we-online.com/catalog/datasheet/860011373001.pdf; ComponentLink1URL: http://www.we-online.de; ComponentLink1Description: Manufacturer; Capacitance: 0.47uF
footprint WCAP-ATG8_D6.3H11
pins: 1 P, 2 N

## 860011373002
designator C?, comment 1uF, 400V
WCAP-ATG8 Aluminum Electrolytic Capacitor, Radial, THT, D6.3xH11, 1uF, 400V; Manufacturer Part Number: 860011373002; Manufacturer: Wurth Elektronik; Ripple Current: 20mA; Rated Voltage: 400VDC; Technical Reference: ATAD110010M400DSPA4B000; Leakage Current: 12uA; Endurance: 2000h; Dissipation Factor: 15%; Capacitance Tolerance: +/-20%; ComponentLink2Description: Datasheet; Published Date: October 2020; Packaging: Ammo Pack; Operating Temperature: -25 to +85degC; Mounting Technology: THT; Height: 11mm; Diameter: 6.3mm; ComponentLink2URL: https://www.we-online.com/catalog/datasheet/860011373002.pdf; ComponentLink1URL: http://www.we-online.de; ComponentLink1Description: Manufacturer; Capacitance: 1uF
footprint WCAP-ATG8_D6.3H11
pins: 1 P, 2 N

## 860011374003
designator C?, comment 2.2uF, 400V
WCAP-ATG8 Aluminum Electrolytic Capacitor, Radial, THT, D8xH11.5, 2.2uF, 400V; Manufacturer Part Number: 860011374003; Manufacturer: Wurth Elektronik; Ripple Current: 32mA; Rated Voltage: 400VDC; Technical Reference: ATAE1152R2M400DSPA7B000; Leakage Current: 26.4uA; Endurance: 2000h; Dissipation Factor: 15%; Capacitance Tolerance: +/-20%; ComponentLink2Description: Datasheet; Published Date: October 2020; Packaging: Ammo Pack; Operating Temperature: -25 to +85degC; Mounting Technology: THT; Height: 11.5mm; Diameter: 8mm; ComponentLink2URL: https://www.we-online.com/catalog/datasheet/860011374003.pdf; ComponentLink1URL: http://www.we-online.de; ComponentLink1Description: Manufacturer; Capacitance: 2.2uF
footprint WCAP-ATG8_D8H11.5
pins: 1 P, 2 N